# Altium footprint library DPAK4P229_1007X238L159X93T520X546N.PcbLib: 1 footprints
Each footprint in its own frame and in the unit in brackets; x right, y up, seen from the top. Pads: shape width x height; smd on the part's side, far side on the other; paste and mask are expansions set on the pad; w line width, h text height; cw(c..) or ccw(c..) is an arc to the next point about the centre after c.
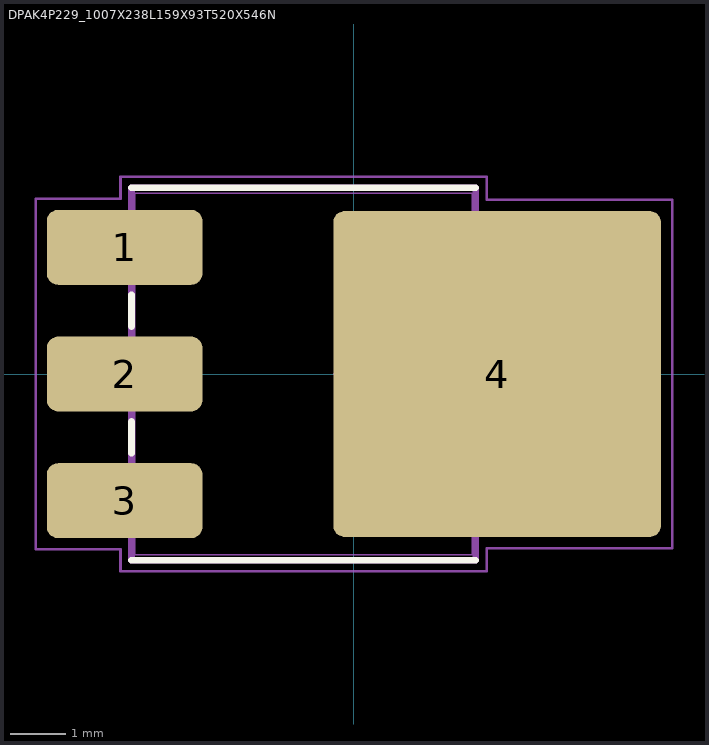
[diagram p0: the footprint, top view; thin cyan lines are the x and y axes]

## DPAK4P229_1007X238L159X93T520X546N [mm] "DPAK, 2.29 mm pitch; 4 pin, 6.095 mm L X 6.54 mm W X 2.38 mm H body"
height 2.38
pads (4):
  rrect30% 2.813x1.355 smd: 1(-4.143,2.29) 2(-4.143,0) 3(-4.143,-2.29)
  rrect7% 5.923x5.895 smd paste-5.923: 4(2.588,0)
Top Overlay:
  lines w0.12: -4.02,-3.365 2.2,-3.365 ; -4.02,-1.432 -4.02,-0.858 ; -4.02,0.858 -4.02,1.432 ; -4.02,3.365 2.2,3.365
Top Paste:
  region: 3.864,1.27 3.864,2.66 5.262,2.66 5.262,1.27
  region: 1.889,1.27 1.889,2.66 3.287,2.66 3.287,1.27
  region: -0.085,1.27 -0.085,2.66 1.314,2.66 1.314,1.27
  region: 3.864,-0.695 3.864,0.695 5.262,0.695 5.262,-0.695
  region: 1.889,-0.695 1.889,0.695 3.287,0.695 3.287,-0.695
  region: -0.085,-0.695 -0.085,0.695 1.314,0.695 1.314,-0.695
  region: 3.864,-2.66 3.864,-1.27 5.262,-1.27 5.262,-2.66
  region: 1.889,-2.66 1.889,-1.27 3.287,-1.27 3.287,-2.66
  region: -0.085,-2.66 -0.085,-1.27 1.314,-1.27 1.314,-2.66
Mechanical 3:
  lines w0.12: -4.02,-3.365 2.2,-3.365 2.2,3.365 -4.02,3.365 -4.02,-3.365
Mechanical 5:
  lines w0.025: -5.037,-2.755 -5.037,-1.825 -3.447,-1.825 -3.447,-2.755 -5.037,-2.755 ; -5.037,-0.465 -5.037,0.465 -3.447,0.465 -3.447,-0.465 -5.037,-0.465 ; -5.037,1.825 -5.037,2.755 -3.447,2.755 -3.447,1.825 -5.037,1.825 ; -0.162,-2.73 5.038,-2.73 5.038,2.73 -0.162,2.73 -0.162,-2.73
Mechanical 7:
  circle w0.05: c0,0 r0.25
  lines w0.025: -3.958,-3.27 2.137,-3.27 2.137,3.27 -3.958,3.27 -3.958,-3.27
  lines w0.05: -0.35,0 0.35,0 ; 0,-0.35 0,0.35 ; -5.749,-3.168 -4.22,-3.168 -4.22,-3.565 2.4,-3.565 2.4,-3.148 5.75,-3.148 5.75,3.148 2.4,3.148 2.4,3.565 -4.22,3.565 -4.22,3.168 -5.749,3.168 -5.749,-3.168
3D body "DPAK4P229_1007X238L159X93T520X546.STEP": height 2.38, standoff 0, extent -5.038,-3.27 5.038,3.27